# EAGLE library part XC95144XLTQG144 (library xilinx_xc95XXXxl)
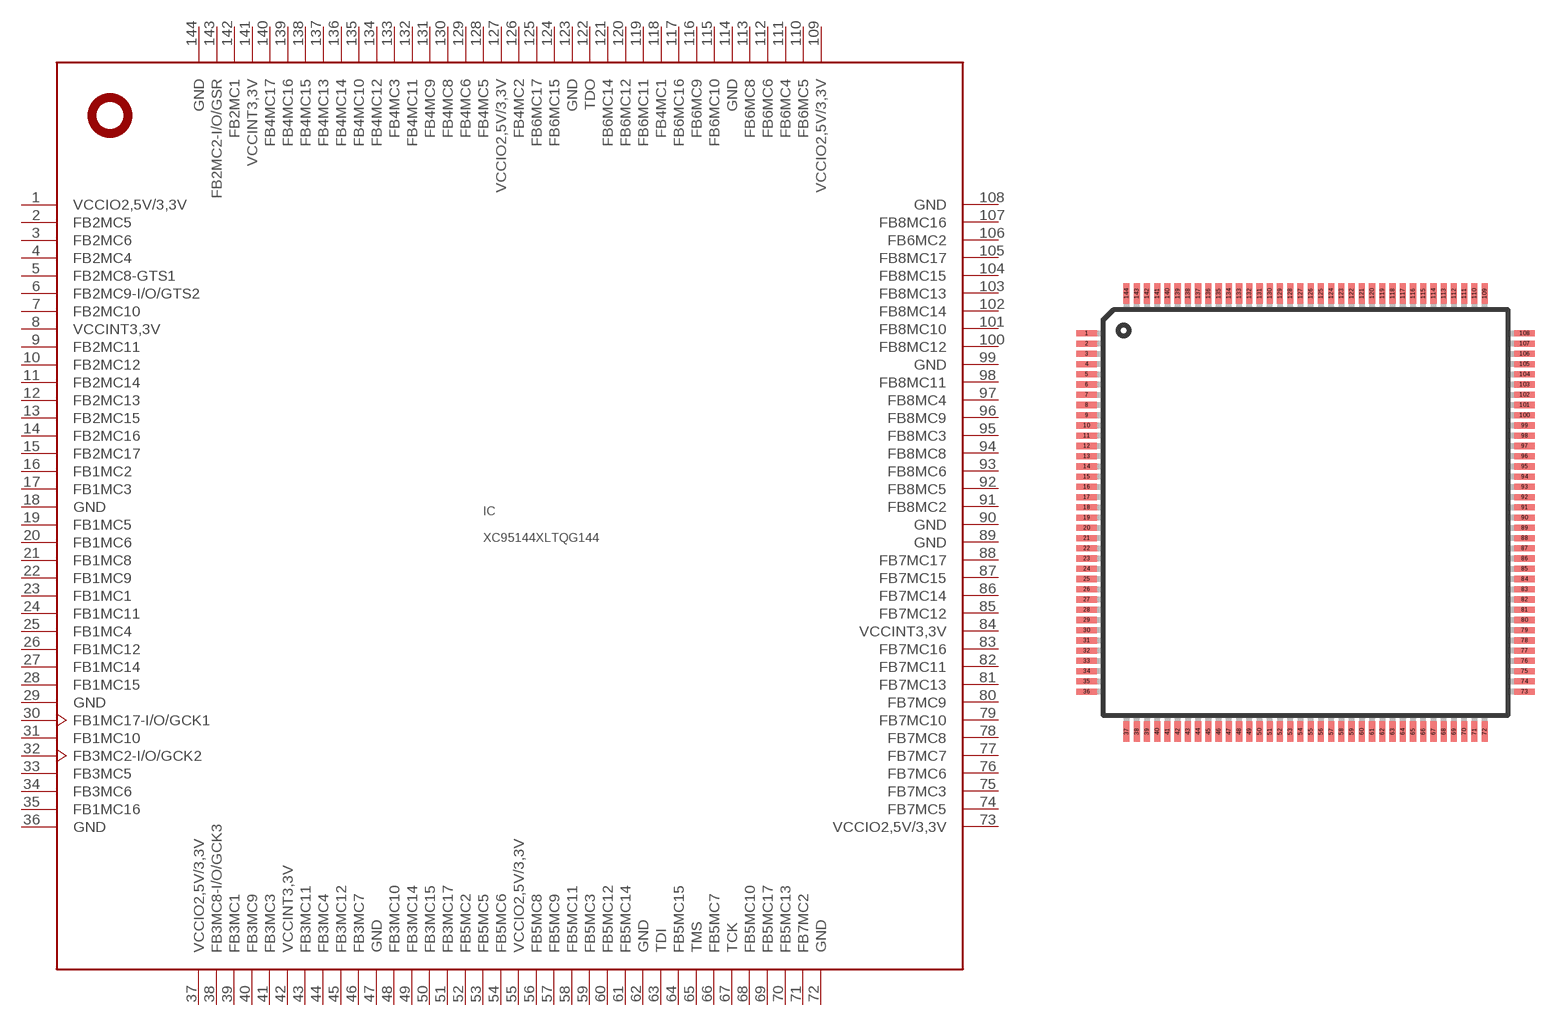
[diagram p4: symbol with the pads of TQFP144; footprint TQFP144]

Designator prefix IC

## XC95144XLTQG144  [TQFP144]
1  VCCIO2,5V/3,3V  pwr
2  FB2MC5
3  FB2MC6
4  FB2MC4
5  FB2MC8-GTS1
6  FB2MC9-I/O/GTS2
7  FB2MC10
8  VCCINT3,3V  pwr
9  FB2MC11
10  FB2MC12
11  FB2MC14
12  FB2MC13
13  FB2MC15
14  FB2MC16
15  FB2MC17
16  FB1MC2
17  FB1MC3
18  GND  sup
19  FB1MC5
20  FB1MC6
21  FB1MC8
22  FB1MC9
23  FB1MC1
24  FB1MC11
25  FB1MC4
26  FB1MC12
27  FB1MC14
28  FB1MC15
29  GND  sup
30  FB1MC17-I/O/GCK1
31  FB1MC10
32  FB3MC2-I/O/GCK2
33  FB3MC5
34  FB3MC6
35  FB1MC16
36  GND  sup
37  VCCIO2,5V/3,3V  pwr
38  FB3MC8-I/O/GCK3
39  FB3MC1
40  FB3MC9
41  FB3MC3
42  VCCINT3,3V  pwr
43  FB3MC11
44  FB3MC4
45  FB3MC12
46  FB3MC7
47  GND  sup
48  FB3MC10
49  FB3MC14
50  FB3MC15
51  FB3MC17
52  FB5MC2
53  FB5MC5
54  FB5MC6
55  VCCIO2,5V/3,3V  pwr
56  FB5MC8
57  FB5MC9
58  FB5MC11
59  FB5MC3
60  FB5MC12
61  FB5MC14
62  GND  sup
63  TDI
64  FB5MC15
65  TMS
66  FB5MC7
67  TCK
68  FB5MC10
69  FB5MC17
70  FB5MC13
71  FB7MC2
72  GND  sup
73  VCCIO2,5V/3,3V  pwr
74  FB7MC5
75  FB7MC3
76  FB7MC6
77  FB7MC7
78  FB7MC8
79  FB7MC10
80  FB7MC9
81  FB7MC13
82  FB7MC11
83  FB7MC16
84  VCCINT3,3V  pwr
85  FB7MC12
86  FB7MC14
87  FB7MC15
88  FB7MC17
89  GND
90  GND
91  FB8MC2
92  FB8MC5
93  FB8MC6
94  FB8MC8
95  FB8MC3
96  FB8MC9
97  FB8MC4
98  FB8MC11
99  GND  sup
100  FB8MC12
101  FB8MC10
102  FB8MC14
103  FB8MC13
104  FB8MC15
105  FB8MC17
106  FB6MC2
107  FB8MC16
108  GND  sup
109  VCCIO2,5V/3,3V  pwr
110  FB6MC5
111  FB6MC4
112  FB6MC6
113  FB6MC8
114  GND  sup
115  FB6MC10
116  FB6MC9
117  FB6MC16
118  FB4MC1
119  FB6MC11
120  FB6MC12
121  FB6MC14
122  TDO
123  GND  sup
124  FB6MC15
125  FB6MC17
126  FB4MC2
127  VCCIO2,5V/3,3V  pwr
128  FB4MC5
129  FB4MC6
130  FB4MC8
131  FB4MC9
132  FB4MC11
133  FB4MC3
134  FB4MC12
135  FB4MC10
136  FB4MC14
137  FB4MC13
138  FB4MC15
139  FB4MC16
140  FB4MC17
141  VCCINT3,3V  pwr
142  FB2MC1
143  FB2MC2-I/O/GSR  pwr
144  GND  sup

## Footprint TQFP144 (pad centres in mm)
TQ144 Auto generated by make-symbol-device-package-bsdl.ulp Rev. 26 Source: xcv100_tq144_1532.bsd; tq144.pdf
smd 1 x 0.3: 1 -10.7,8.75; 2 -10.7,8.25; 3 -10.7,7.75; 4 -10.7,7.25; 5 -10.7,6.75; 6 -10.7,6.25; 7 -10.7,5.75; 8 -10.7,5.25; 9 -10.7,4.75; 10 -10.7,4.25; 11 -10.7,3.75; 12 -10.7,3.25; 13 -10.7,2.75; 14 -10.7,2.25; 15 -10.7,1.75; 16 -10.7,1.25; 17 -10.7,0.75; 18 -10.7,0.25; 19 -10.7,-0.25; 20 -10.7,-0.75; 21 -10.7,-1.25; 22 -10.7,-1.75; 23 -10.7,-2.25; 24 -10.7,-2.75; 25 -10.7,-3.25; 26 -10.7,-3.75; 27 -10.7,-4.25; 28 -10.7,-4.75; 29 -10.7,-5.25; 30 -10.7,-5.75; 31 -10.7,-6.25; 32 -10.7,-6.75; 33 -10.7,-7.25; 34 -10.7,-7.75; 35 -10.7,-8.25; 36 -10.7,-8.75; 73 10.7,-8.75; 74 10.7,-8.25; 75 10.7,-7.75; 76 10.7,-7.25; 77 10.7,-6.75; 78 10.7,-6.25; 79 10.7,-5.75; 80 10.7,-5.25; 81 10.7,-4.75; 82 10.7,-4.25; 83 10.7,-3.75; 84 10.7,-3.25; 85 10.7,-2.75; 86 10.7,-2.25; 87 10.7,-1.75; 88 10.7,-1.25; 89 10.7,-0.75; 90 10.7,-0.25; 91 10.7,0.25; 92 10.7,0.75; 93 10.7,1.25; 94 10.7,1.75; 95 10.7,2.25; 96 10.7,2.75; 97 10.7,3.25; 98 10.7,3.75; 99 10.7,4.25; 100 10.7,4.75; 101 10.7,5.25; 102 10.7,5.75; 103 10.7,6.25; 104 10.7,6.75; 105 10.7,7.25; 106 10.7,7.75; 107 10.7,8.25; 108 10.7,8.75
smd 0.3 x 1: 37 -8.75,-10.7; 38 -8.25,-10.7; 39 -7.75,-10.7; 40 -7.25,-10.7; 41 -6.75,-10.7; 42 -6.25,-10.7; 43 -5.75,-10.7; 44 -5.25,-10.7; 45 -4.75,-10.7; 46 -4.25,-10.7; 47 -3.75,-10.7; 48 -3.25,-10.7; 49 -2.75,-10.7; 50 -2.25,-10.7; 51 -1.75,-10.7; 52 -1.25,-10.7; 53 -0.75,-10.7; 54 -0.25,-10.7; 55 0.25,-10.7; 56 0.75,-10.7; 57 1.25,-10.7; 58 1.75,-10.7; 59 2.25,-10.7; 60 2.75,-10.7; 61 3.25,-10.7; 62 3.75,-10.7; 63 4.25,-10.7; 64 4.75,-10.7; 65 5.25,-10.7; 66 5.75,-10.7; 67 6.25,-10.7; 68 6.75,-10.7; 69 7.25,-10.7; 70 7.75,-10.7; 71 8.25,-10.7; 72 8.75,-10.7; 109 8.75,10.7; 110 8.25,10.7; 111 7.75,10.7; 112 7.25,10.7; 113 6.75,10.7; 114 6.25,10.7; 115 5.75,10.7; 116 5.25,10.7; 117 4.75,10.7; 118 4.25,10.7; 119 3.75,10.7; 120 3.25,10.7; 121 2.75,10.7; 122 2.25,10.7; 123 1.75,10.7; 124 1.25,10.7; 125 0.75,10.7; 126 0.25,10.7; 127 -0.25,10.7; 128 -0.75,10.7; 129 -1.25,10.7; 130 -1.75,10.7; 131 -2.25,10.7; 132 -2.75,10.7; 133 -3.25,10.7; 134 -3.75,10.7; 135 -4.25,10.7; 136 -4.75,10.7; 137 -5.25,10.7; 138 -5.75,10.7; 139 -6.25,10.7; 140 -6.75,10.7; 141 -7.25,10.7; 142 -7.75,10.7; 143 -8.25,10.7; 144 -8.75,10.7